# EAGLE library part LM5007 (library lm5007)
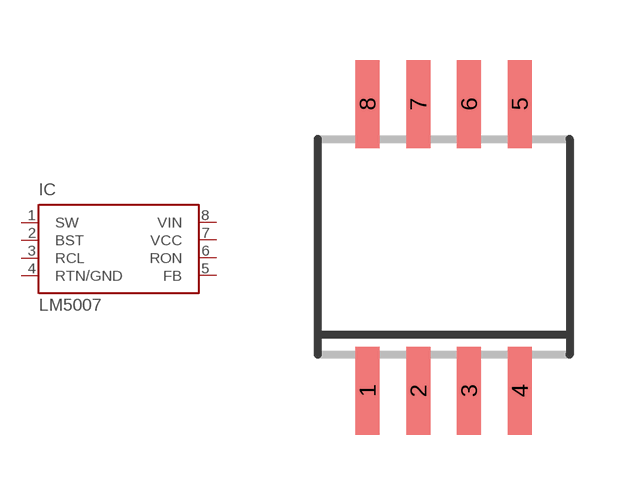
[diagram p62: symbol with the pads of SOP-08; footprint SOP-08]

Designator prefix IC

## LM5007  [SOP-08]
1  SW  in
2  BST  in
3  RCL  in
4  RTN/GND  pwr
5  FB  in
6  RON  in
7  VCC  out
8  VIN  pas

## Footprint SOP-08 (pad centres in mm)
PS (R-PDSO-G8) Source: http://focus.ti.com .. sn65176b.pdf
smd 0.6 x 2.2: 1 -1.905,-3.6; 2 -0.635,-3.6; 3 0.635,-3.6; 4 1.905,-3.6; 5 1.905,3.575; 6 0.635,3.575; 7 -0.635,3.575; 8 -1.905,3.575